# Altium footprint library Header-2mm.PCBLIB: 59 footprints (part 1 of 4)
Each footprint in its own frame and in the unit in brackets; x right, y up, seen from the top. Pads: shape width x height; smd on the part's side, far side on the other; paste and mask are expansions set on the pad; w line width, h text height; cw(c..) or ccw(c..) is an arc to the next point about the centre after c.
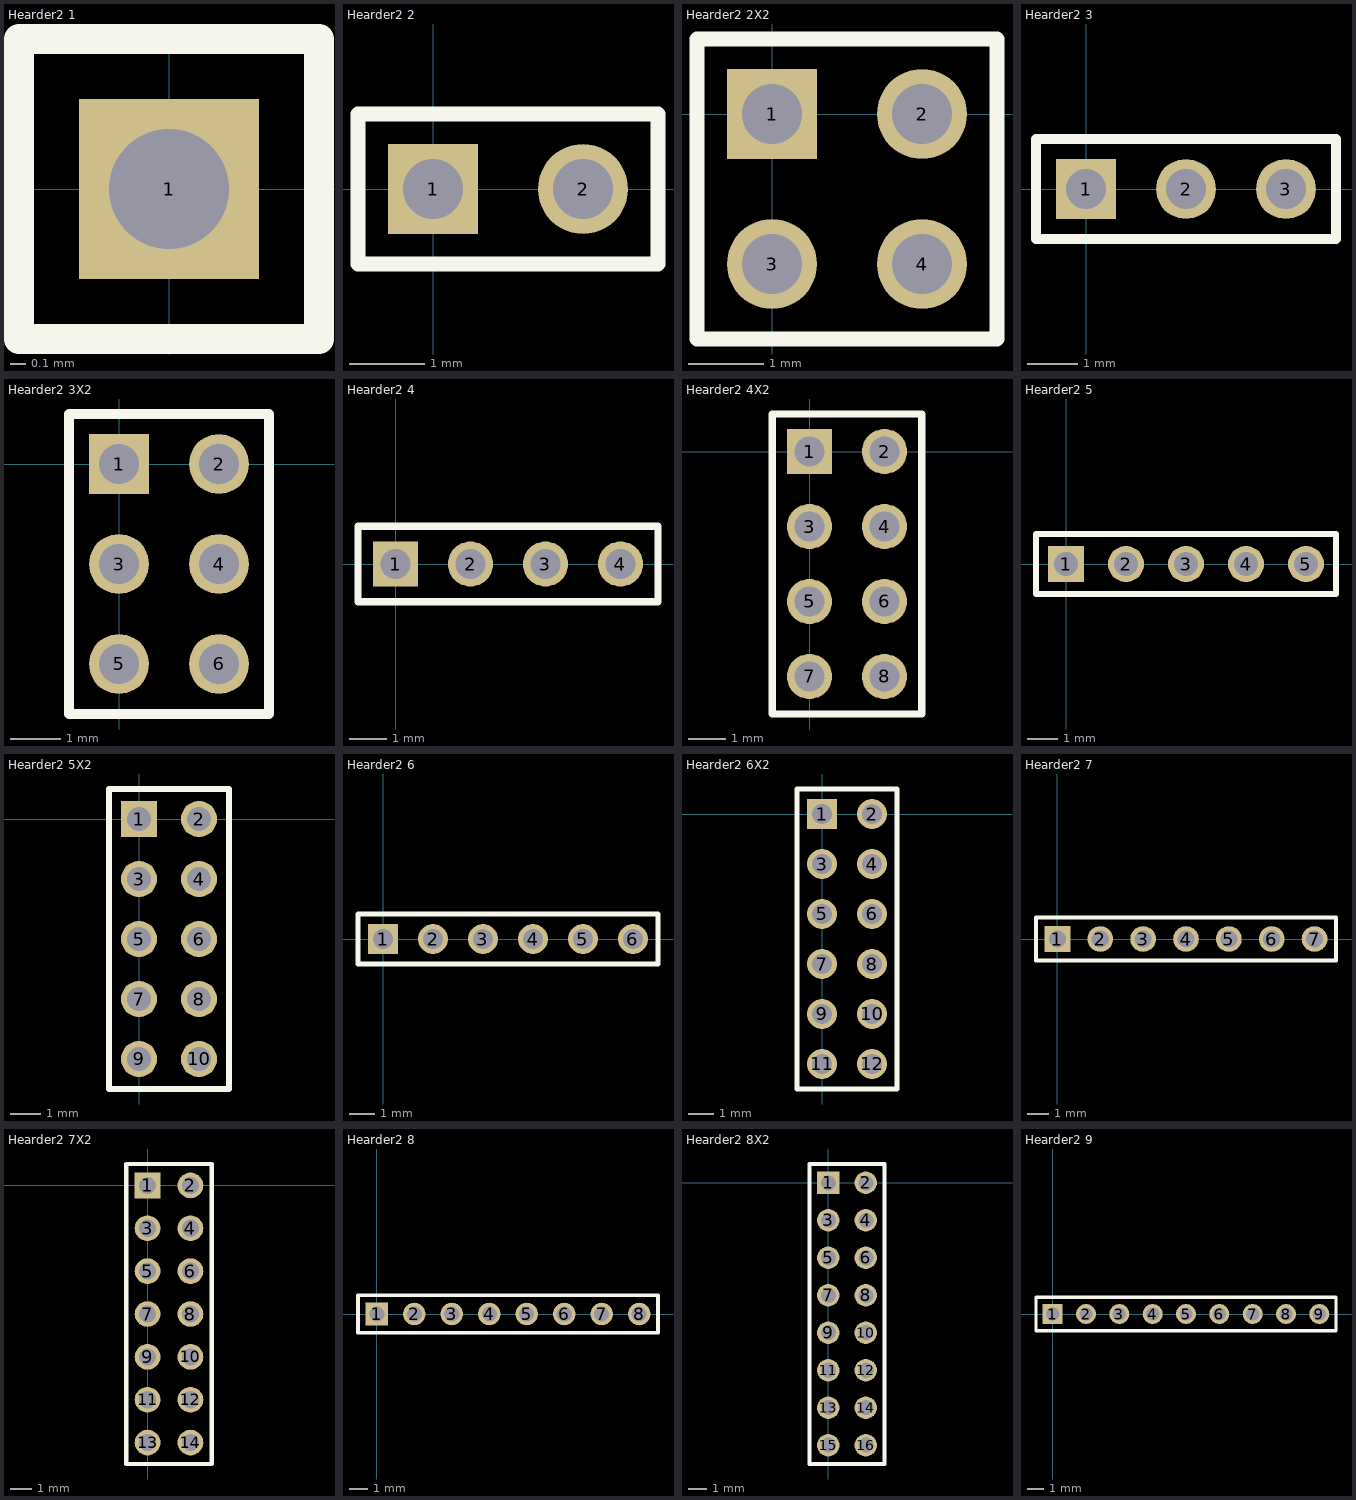
[diagram p0: the footprints below, top view; thin cyan lines are the x and y axes]

## Hearder2 1 [mm]
pads (1):
  rect 1.2x1.2 hole 0.8: 1(0,0)
Top Overlay:
  lines w0.2: -1,-1 1,-1 1,1 -1,1 -1,-1

## Hearder2 2 [mm]
pads (2):
  rect 1.2x1.2 hole 0.8: 1(0,0)
  round 1.2 hole 0.8: 2(2,0)
Top Overlay:
  lines w0.2: -1,-1 3,-1 3,1 -1,1 -1,-1

## Hearder2 2X2 [mm]
pads (4):
  rect 1.2x1.2 hole 0.8: 1(0,0)
  round 1.2 hole 0.8: 2(2,0) 3(0,-2) 4(2,-2)
Top Overlay:
  lines w0.2: -1,-3 3,-3 3,1 -1,1 -1,-3

## Hearder2 3 [mm]
pads (3):
  rect 1.2x1.2 hole 0.8: 1(0,0)
  round 1.2 hole 0.8: 2(2,0) 3(4,0)
Top Overlay:
  lines w0.2: -1,-1 -1,1 5,1 5,-1 -1,-1

## Hearder2 3X2 [mm]
pads (6):
  rect 1.2x1.2 hole 0.8: 1(0,0)
  round 1.2 hole 0.8: 2(2,0) 3(0,-2) 4(2,-2) 5(0,-4) 6(2,-4)
Top Overlay:
  lines w0.2: -1,-5 3,-5 3,1 -1,1 -1,-5

## Hearder2 4 [mm]
pads (4):
  rect 1.2x1.2 hole 0.8: 1(0,0)
  round 1.2 hole 0.8: 2(2,0) 3(4,0) 4(6,0)
Top Overlay:
  lines w0.2: -1,-1 -1,1 7,1 7,-1 -1,-1

## Hearder2 4X2 [mm]
pads (8):
  rect 1.2x1.2 hole 0.8: 1(0,0)
  round 1.2 hole 0.8: 2(2,0) 3(0,-2) 4(2,-2) 5(0,-4) 6(2,-4) 7(0,-6) 8(2,-6)
Top Overlay:
  lines w0.2: -1,-7 3,-7 3,1 -1,1 -1,-7

## Hearder2 5 [mm]
pads (5):
  rect 1.2x1.2 hole 0.8: 1(0,0)
  round 1.2 hole 0.8: 2(2,0) 3(4,0) 4(6,0) 5(8,0)
Top Overlay:
  lines w0.2: -1,-1 -1,1 9,1 9,-1 -1,-1

## Hearder2 5X2 [mm]
pads (10):
  rect 1.2x1.2 hole 0.8: 1(0,0)
  round 1.2 hole 0.8: 2(2,0) 3(0,-2) 4(2,-2) 5(0,-4) 6(2,-4) 7(0,-6) 8(2,-6) 9(0,-8) 10(2,-8)
Top Overlay:
  lines w0.2: -1,-9 3,-9 3,1 -1,1 -1,-9

## Hearder2 6 [mm]
pads (6):
  rect 1.2x1.2 hole 0.8: 1(0,0)
  round 1.2 hole 0.8: 2(2,0) 3(4,0) 4(6,0) 5(8,0) 6(10,0)
Top Overlay:
  lines w0.2: -1,-1 -1,1 11,1 11,-1 -1,-1

## Hearder2 6X2 [mm]
pads (12):
  rect 1.2x1.2 hole 0.8: 1(0,0)
  round 1.2 hole 0.8: 2(2,0) 3(0,-2) 4(2,-2) 5(0,-4) 6(2,-4) 7(0,-6) 8(2,-6) 9(0,-8) 10(2,-8) 11(0,-10) 12(2,-10)
Top Overlay:
  lines w0.2: -1,-11 -1,1 3,1 3,-11 -1,-11

## Hearder2 7 [mm]
pads (7):
  rect 1.2x1.2 hole 0.8: 1(0,0)
  round 1.2 hole 0.8: 2(2,0) 3(4,0) 4(6,0) 5(8,0) 6(10,0) 7(12,0)
Top Overlay:
  lines w0.2: -1,-1 13,-1 13,1 -1,1 -1,-1

## Hearder2 7X2 [mm]
pads (14):
  rect 1.2x1.2 hole 0.8: 1(0,0)
  round 1.2 hole 0.8: 2(2,0) 3(0,-2) 4(2,-2) 5(0,-4) 6(2,-4) 7(0,-6) 8(2,-6) 9(0,-8) 10(2,-8) 11(0,-10) 12(2,-10) 13(0,-12) 14(2,-12)
Top Overlay:
  lines w0.2: -1,-13 3,-13 3,1 -1,1 -1,-13

## Hearder2 8 [mm]
pads (8):
  rect 1.2x1.2 hole 0.8: 1(0,0)
  round 1.2 hole 0.8: 2(2,0) 3(4,0) 4(6,0) 5(8,0) 6(10,0) 7(12,0) 8(14,0)
Top Overlay:
  lines w0.2: -1,-1 15,-1 15,1 -1,1 -1,-1

## Hearder2 8X2 [mm]
pads (16):
  rect 1.2x1.2 hole 0.8: 1(0,0)
  round 1.2 hole 0.8: 2(2,0) 3(0,-2) 4(2,-2) 5(0,-4) 6(2,-4) 7(0,-6) 8(2,-6) 9(0,-8) 10(2,-8) 11(0,-10) 12(2,-10) 13(0,-12) 14(2,-12) 15(0,-14) 16(2,-14)
Top Overlay:
  lines w0.2: -1,-15 3,-15 3,1 -1,1 -1,-15

## Hearder2 9 [mm]
pads (9):
  rect 1.2x1.2 hole 0.8: 1(0,0)
  round 1.2 hole 0.8: 2(2,0) 3(4,0) 4(6,0) 5(8,0) 6(10,0) 7(12,0) 8(14,0) 9(16,0)
Top Overlay:
  lines w0.2: -1,-1 -1,1 17,1 17,-1 -1,-1